# EAGLE library part OPENS_POWER_7.2 (library eDNA)
OPENSLAB power board version 7.2 Designed by Mitch and upgrade/update by Bao Nguyen
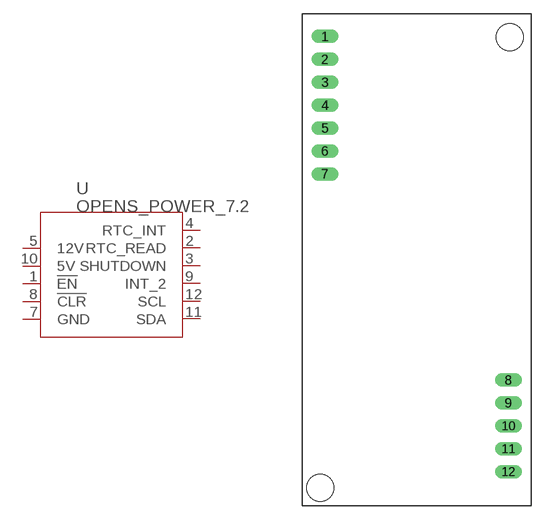
[diagram p11: symbol with the pads of OPENS_POWER_7.2; footprint OPENS_POWER_7.2]

Designator prefix -

## OPENS_POWER_7.2  [OPENS_POWER_7.2]
1  !EN
2  RTC_READ
3  SHUTDOWN
4  RTC_INT
5  12V
7  GND
8  !CLR
9  INT_2
10  5V
11  SDA
12  SCL

## Footprint OPENS_POWER_7.2 (pad centres in mm)
drill 1 pad 1.422 long: 1 2.54,52.07; 2 2.54,49.53; 3 2.54,46.99; 4 2.54,44.45; 5 2.54,41.91; 6 2.54,39.37; 7 2.54,36.83; 8 22.86,13.97; 9 22.86,11.43; 10 22.86,8.89; 11 22.86,6.35; 12 22.86,3.81
hole 3 at 2,2
hole 3 at 23,52